# Altium footprint library TXB0108PWR.PcbLib: 1 footprints
Each footprint in its own frame and in the unit in brackets; x right, y up, seen from the top. Pads: shape width x height; smd on the part's side, far side on the other; paste and mask are expansions set on the pad; w line width, h text height; cw(c..) or ccw(c..) is an arc to the next point about the centre after c.
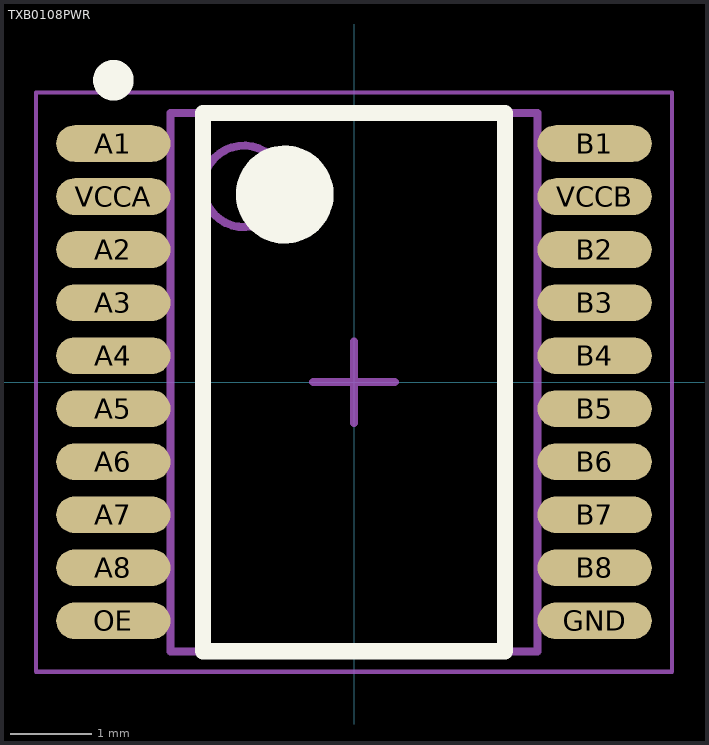
[diagram p0: the footprint, top view; thin cyan lines are the x and y axes]

## TXB0108PWR [mm] "8-Bit Bidirectional Voltage-Level Shifter with Auto Direction Sensing"
height 1.2
pads (20):
  oval 1.4x0.45 smd: A1(-2.95,2.925) A2(-2.95,1.625) A3(-2.95,0.975) A4(-2.95,0.325) A5(-2.95,-0.325) A6(-2.95,-0.975) A7(-2.95,-1.625) A8(-2.95,-2.275) B1(2.95,2.925) B2(2.95,1.625) B3(2.95,0.975) B4(2.95,0.325) B5(2.95,-0.325) B6(2.95,-0.975) B7(2.95,-1.625) B8(2.95,-2.275) GND(2.95,-2.925) OE(-2.95,-2.925) VCCA(-2.95,2.275) VCCB(2.95,2.275)
Top Overlay:
  circle w0.6: c-0.85,2.3 r0.3
  circle w0.25: c-2.95,3.7 r0.125
  lines w0.2: -1.85,-3.3 1.85,-3.3 1.85,3.3 -1.85,3.3 -1.85,-3.3
Assembly Top:
  circle w0.1: c-1.35,2.4 r0.5
  lines w0.1: -2.25,-3.3 2.25,-3.3 2.25,3.3 -2.25,3.3 -2.25,-3.3
Courtyard Top:
  lines w0.05: -3.9,-3.55 3.9,-3.55 3.9,3.55 -3.9,3.55 -3.9,-3.55
  lines w0.1: -0.5,0 0.5,0 ; 0,-0.5 0,0.5
3D body: height 1.2, standoff 0.15, extent -2.25,-3.3 2.25,3.3